# Altium schematic symbol library MinervaBots.SCHLIB: 115 symbols
Pins are listed as number, name and electrical type; pins without a type are passive.

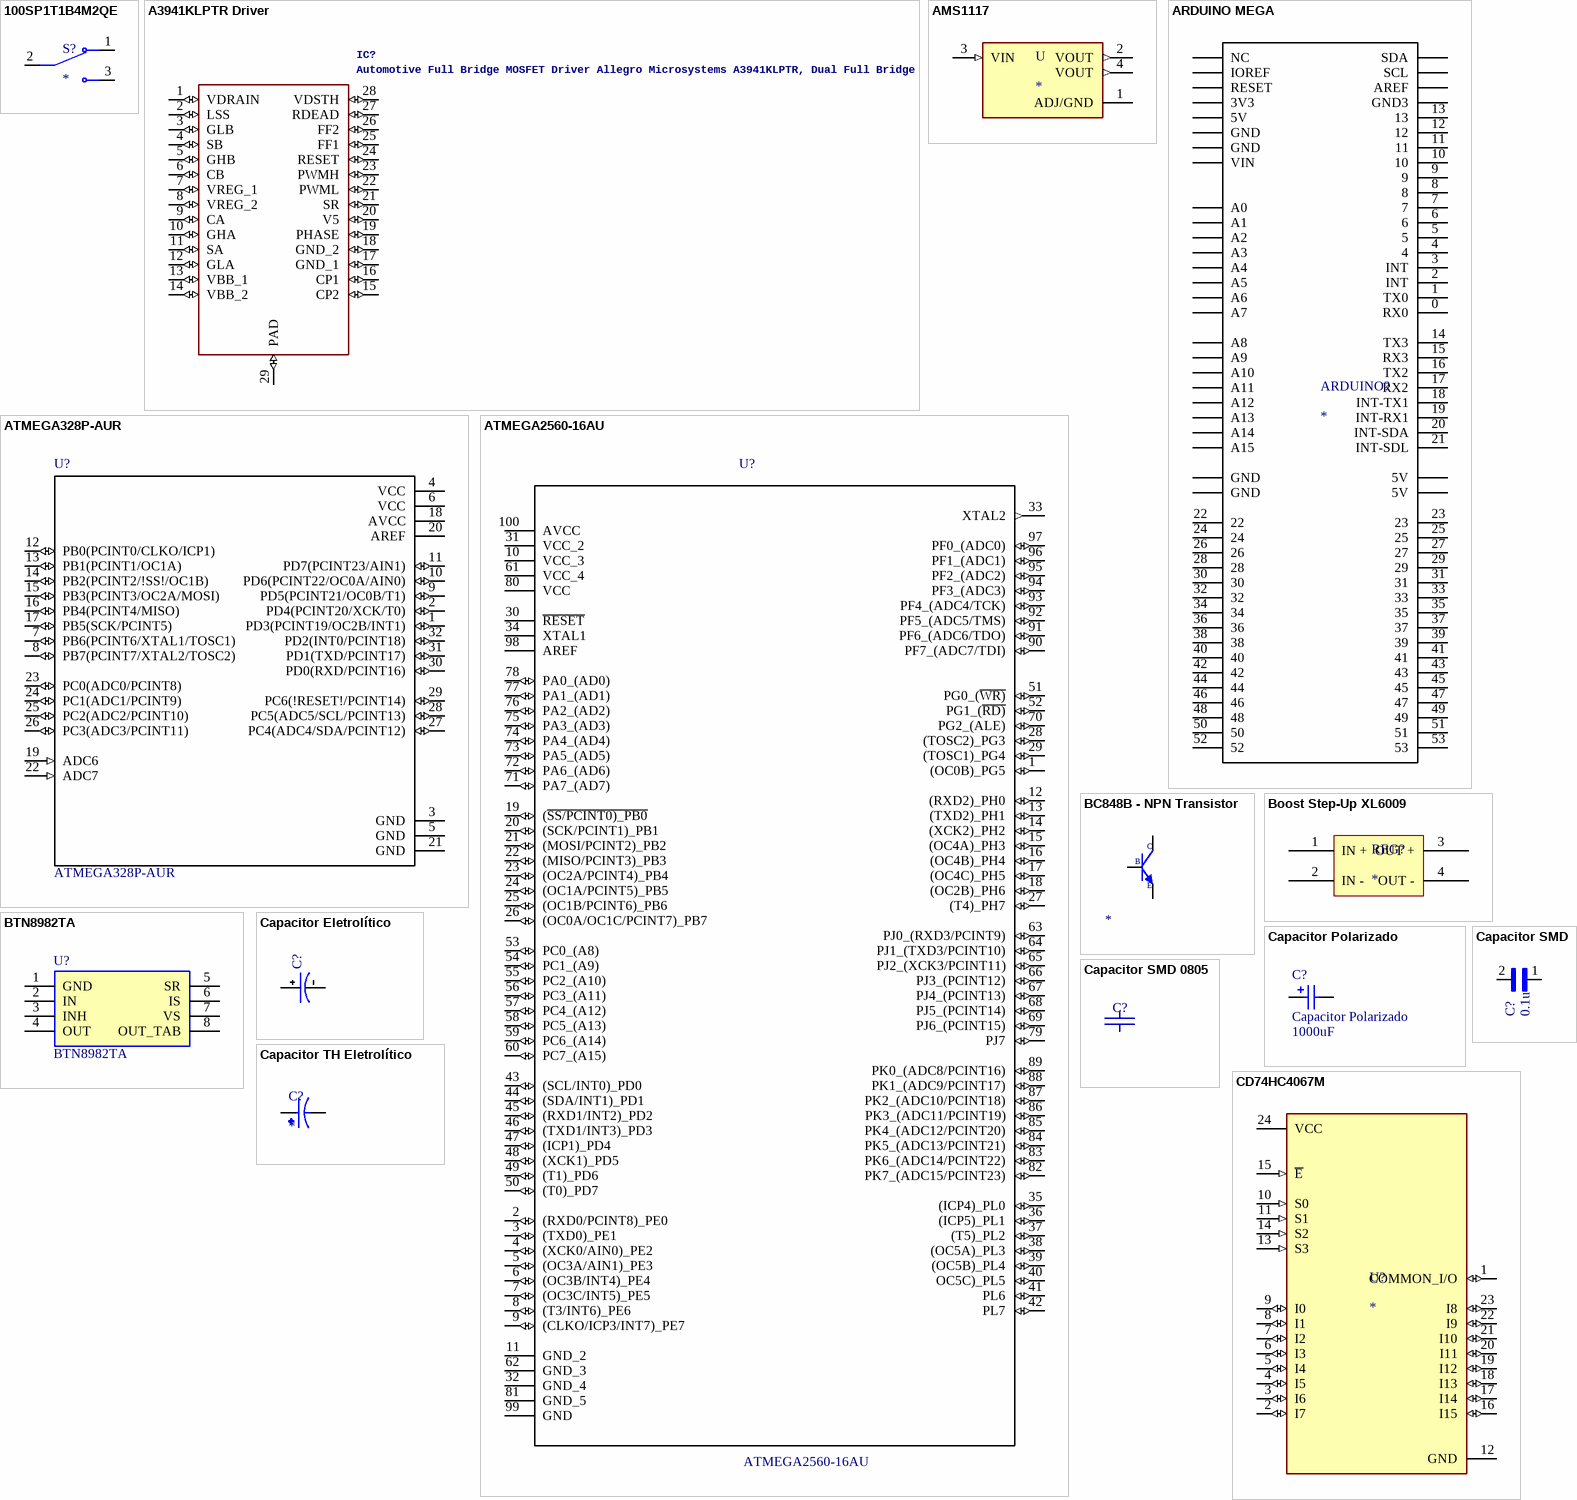
[diagram p0: symbols 100SP1T1B4M2QE to CD74HC4067M]

## 100SP1T1B4M2QE
designator S?
Toggle Switch SPDT Through Hole; MP: 100SP1T1B4M2QE; Value: *; Availability: Unavailable; Price: None; Package: None
footprint SW_100SP1T1B4M2QE_ciano (Footprint not found)
footprint SW_100SP1T1B4M2QE_vermelho (Footprint not found)
footprint SW_100SP1T1B4M2QE_azul (Footprint not found)
footprint SW_100SP1T1B4M2QE_verde (Footprint not found)
pins: 1, 2, 3

## A3941KLPTR Driver
designator IC?, comment Automotive Full Bridge MOSFET Driver Allegro Microsystems A3941KLPTR, Dual Full Bridge MOSFET Power Driver, 5.5  50 V, High Side/Low Side, 28-PinSource:  Datasheet
Driver de motor brushed; GateName_1: G$1; SymbolName_1: A3941KLPTR; LibraryName: A3941KLPTR; DeviceSetName: A3941KLPTR; Package: SOP65P640X120-29N; Manufacturer_Name: Allegro Microsystems; Manufacturer_Part_Number: A3941KLPTR; Height: 1.2mm
footprint SOP65P640X120-29N
pins: 1 VDRAIN (io), 2 LSS (io), 3 GLB (io), 4 SB (io), 5 GHB (io), 6 CB (io), 7 VREG_1 (io), 8 VREG_2 (io), 9 CA (io), 10 GHA (io), 11 SA (io), 12 GLA (io), 13 VBB_1 (io), 14 VBB_2 (io), 15 CP2 (io), 16 CP1 (io), 17 GND_1 (io), 18 GND_2 (io), 19 PHASE (io), 20 V5 (io), 21 SR (io), 22 PWML (io), 23 PWMH (io), 24 RESET (io), 25 FF1 (io), 26 FF2 (io), 27 RDEAD (io), 28 VDSTH (io), 29 PAD (io)

## AMS1117
designator U
UNO PLUS Arduino R3 Shield, Xbee Arduino IDE Wheeled Robotics Kit; MP: AMS1117; MF: Seeed Technology; Availability: Unavailable; SnapEDA_Link: https://www.snapeda.com/parts/AMS1117/Seeed%20Technology%20Co.%2C%20Ltd/view-part/184428/?ref=snap; Price: None; Value: *; Package: SOT-223 Seeed Technology
footprint SOT229P700X180-4N
pins: 1 ADJ/GND (power), 2 VOUT (out), 3 VIN (in), 4 VOUT (out)

## ARDUINO MEGA
designator ARDUINO?
footprint Arduino Mega
pins: 0 RX0 (power), 1 TX0 (power), 2 INT (power), 3 INT (power), 3V3 (power), 4 (power), 5 (power), 5V_1 5V (power), 5V_2 5V (power), 5V_3 5V (power), 6 (power), 7 (power), 8 (power), 9 (power), 10 (power), 11 (power), 12 (power), 13 (power), 14 TX3 (power), 15 RX3 (power), 16 TX2 (power), 17 RX2 (power), 18 INT-TX1 (power), 19 INT-RX1 (power), 20 INT-SDA (power), 21 INT-SDL (power), 22 (power), 23 (power), 24 (power), 25 (power), 26 (power), 27 (power), 28 (power), 29 (power), 30 (power), 31 (power), 32 (power), 33 (power), 34 (power), 35 (power), 36 (power), 37 (power), 38 (power), 39 (power), 40 (power), 41 (power), 42 (power), 43 (power), 44 (power), 45 (power), 46 (power), 47 (power), 48 (power), 49 (power), 50 (power), 51 (power), 52 (power), 53 (power), AD0 A0 (power), AD1 A1 (power), AD2 A2 (power), AD3 A3 (power), AD4 A4 (power), AD5 A5 (power), AD6 A6 (power), AD7 A7 (power), AD8 A8 (power), AD9 A9 (power), AD10 A10 (power), AD11 A11 (power), AD12 A12 (power), AD13 A13 (power), AD14 A14 (power), AD15 A15 (power), AREF (power), GND1 GND (power), GND2 GND (power), GND3 (power), GND4 GND (power), GND5 GND (power), IOREF (power), NC (power), RESET (power), SCL (power), SDA (power), VIN (power)

## ATMEGA328P-AUR
designator U?
ATmega328P Series 8 Bit 2 kB RAM 32 kB Flash SMT Microcontroller - TQFP-32; MF: Microchip; MP: ATMEGA328P-AUR; Package: TQFP-32 Microchip; Price: None; SnapEDA_Link: https://www.snapeda.com/parts/ATMEGA328P-AUR/Microchip/view-part/?ref=snap; Availability: Unavailable; Value: *
footprint ATMEGA328P-AUR
pins: 1 PD3(PCINT19/OC2B/INT1) (io), 2 PD4(PCINT20/XCK/T0) (io), 3 GND (power), 4 VCC (power), 5 GND (power), 6 VCC (power), 7 PB6(PCINT6/XTAL1/TOSC1) (io), 8 PB7(PCINT7/XTAL2/TOSC2) (io), 9 PD5(PCINT21/OC0B/T1) (io), 10 PD6(PCINT22/OC0A/AIN0) (io), 11 PD7(PCINT23/AIN1) (io), 12 PB0(PCINT0/CLKO/ICP1) (io), 13 PB1(PCINT1/OC1A) (io), 14 PB2(PCINT2/!SS!/OC1B) (io), 15 PB3(PCINT3/OC2A/MOSI) (io), 16 PB4(PCINT4/MISO) (io), 17 PB5(SCK/PCINT5) (io), 18 AVCC (power), 19 ADC6 (in), 20 AREF (power), 21 GND (power), 22 ADC7 (in), 23 PC0(ADC0/PCINT8) (io), 24 PC1(ADC1/PCINT9) (io), 25 PC2(ADC2/PCINT10) (io), 26 PC3(ADC3/PCINT11) (io), 27 PC4(ADC4/SDA/PCINT12) (io), 28 PC5(ADC5/SCL/PCINT13) (io), 29 PC6(!RESET!/PCINT14) (io), 30 PD0(RXD/PCINT16) (io), 31 PD1(TXD/PCINT17) (io), 32 PD2(INT0/PCINT18) (io)

## ATMEGA2560-16AU
designator U?
Embedded microcontroller ATMEGA2560-16AU TQFP 100 _14x14_ Microchip Technology 8-Bit 16 MHz I/O number 86; Price: None; SnapEDA_Link: https://www.snapeda.com/parts/ATMEGA2560-16AU/Microchip/view-part/?ref=snap; MF: Microchip; Availability: Unavailable; Package: TQFP-100 Microchip; MP: ATMEGA2560-16AU; Value: *
footprint ATMEGA2560-16AU
pins: 1 (OC0B)_PG5 (io), 2 (RXD0/PCINT8)_PE0 (io), 3 (TXD0)_PE1 (io), 4 (XCK0/AIN0)_PE2 (io), 5 (OC3A/AIN1)_PE3 (io), 6 (OC3B/INT4)_PE4 (io), 7 (OC3C/INT5)_PE5 (io), 8 (T3/INT6)_PE6 (io), 9 (CLKO/ICP3/INT7)_PE7 (io), 10 VCC_3 (power), 11 GND_2, 12 (RXD2)_PH0 (io), 13 (TXD2)_PH1 (io), 14 (XCK2)_PH2 (io), 15 (OC4A)_PH3 (io), 16 (OC4B)_PH4 (io), 17 (OC4C)_PH5 (io), 18 (OC2B)_PH6 (io), 19 (~{SS/PCINT0)_PB0} (io), 20 (SCK/PCINT1)_PB1 (io), 21 (MOSI/PCINT2)_PB2 (io), 22 (MISO/PCINT3)_PB3 (io), 23 (OC2A/PCINT4)_PB4 (io), 24 (OC1A/PCINT5)_PB5 (io), 25 (OC1B/PCINT6)_PB6 (io), 26 (OC0A/OC1C/PCINT7)_PB7 (io), 27 (T4)_PH7 (io), 28 (TOSC2)_PG3 (io), 29 (TOSC1)_PG4 (io), 30 ~{RESET}, 31 VCC_2 (power), 32 GND_4, 33 XTAL2 (out), 34 XTAL1, 35 (ICP4)_PL0 (io), 36 (ICP5)_PL1 (io), 37 (T5)_PL2 (io), 38 (OC5A)_PL3 (io), 39 (OC5B)_PL4 (io), 40 OC5C)_PL5 (io), 41 PL6 (io), 42 PL7 (io), 43 (SCL/INT0)_PD0 (io), 44 (SDA/INT1)_PD1 (io), 45 (RXD1/INT2)_PD2 (io), 46 (TXD1/INT3)_PD3 (io), 47 (ICP1)_PD4 (io), 48 (XCK1)_PD5 (io), 49 (T1)_PD6 (io), 50 (T0)_PD7 (io), 51 PG0_(~{WR)} (io), 52 PG1_(~{RD)} (io), 53 PC0_(A8) (io), 54 PC1_(A9) (io), 55 PC2_(A10) (io), 56 PC3_(A11) (io), 57 PC4_(A12) (io), 58 PC5_(A13) (io), 59 PC6_(A14) (io), 60 PC7_(A15) (io), 61 VCC_4 (power), 62 GND_3, 63 PJ0_(RXD3/PCINT9) (io), 64 PJ1_(TXD3/PCINT10) (io), 65 PJ2_(XCK3/PCINT11) (io), 66 PJ3_(PCINT12) (io), 67 PJ4_(PCINT13) (io), 68 PJ5_(PCINT14) (io), 69 PJ6_(PCINT15) (io), 70 PG2_(ALE) (io), 71 PA7_(AD7) (io), 72 PA6_(AD6) (io), 73 PA5_(AD5) (io), 74 PA4_(AD4) (io), 75 PA3_(AD3) (io), 76 PA2_(AD2) (io), 77 PA1_(AD1) (io), 78 PA0_(AD0) (io), 79 PJ7 (io), 80 VCC (power), 81 GND_5, 82 PK7_(ADC15/PCINT23) (io), 83 PK6_(ADC14/PCINT22) (io), 84 PK5_(ADC13/PCINT21) (io), 85 PK4_(ADC12/PCINT20) (io), 86 PK3_(ADC11/PCINT19) (io), 87 PK2_(ADC10/PCINT18) (io), 88 PK1_(ADC9/PCINT17) (io), 89 PK0_(ADC8/PCINT16) (io), 90 PF7_(ADC7/TDI) (io), 91 PF6_(ADC6/TDO) (io), 92 PF5_(ADC5/TMS) (io), 93 PF4_(ADC4/TCK) (io), 94 PF3_(ADC3) (io), 95 PF2_(ADC2) (io), 96 PF1_(ADC1) (io), 97 PF0_(ADC0) (io), 98 AREF, 99 GND, 100 AVCC (power)

## BC848B - NPN Transistor
designator Q?
NPN Transistor; Model: *
footprint SOT-23
pins: B, C, E

## Boost Step-Up XL6009
designator REG?
footprint STEP-UP XL6009 MODULE
pins: 1 IN + (power), 2 IN - (power), 3 OUT + (power), 4 OUT - (power)

## BTN8982TA
designator U?
New Infineon BTN8982TA Motor Driver,, 7-Pin TO-263-7-1; Geometry.Height: 4.4mm; Supplier_Name: RS; RS Part Number: 1248819; Manufacturer_Name: Infineon; Manufacturer_Part_Number: BTN8982TA; Allied_Number: *; Other Part Number: *; Datasheet Link: http://docs-europe.electrocomponents.com/webdocs/1478/0900766b81478095.pdf; 3D Package: *
footprint BTN8982
pins: 1 GND, 2 IN, 3 INH, 4 OUT, 5 SR, 6 IS, 7 VS, 8 OUT_TAB

## Capacitor Eletrolítico
designator C?
MP: ECA-1HM101; MF: Panasonic; Value: *; SnapEDA_Link: https://www.snapeda.com/parts/ECA-1HM101/Panasonic%20Electronic%20Components/view-part/?ref=snap; Package: Radial Panasonic; Price: 0.12 USD; Availability: Good
footprint Capacitor Eletrolítico 5x11 - Vertical
footprint Capacitor Eletrolítico 5x11 - Deitado para Cima
footprint Capacitor Eletrolítico 5x11 - Deitado para Baixo
footprint Capacitor Eletrolítico 6.3x11 - Deitado para Baixo
footprint Capacitor Eletrolítico 6.3x11 - Deitado para Cima
footprint Capacitor Eletrolítico 6.3x11 - Vertical
footprint Capacitor Eletrolítico 8x12 - Deitado para Baixo
footprint Capacitor Eletrolítico 8x12 - Deitado para Cima
footprint Capacitor Eletrolítico 8x12 - Vertical
pins: N, P

## Capacitor Polarizado
designator C?  value 1000uF
Polarized Capacitor (Radial); Published: 8-Jun-2000; LatestRevisionDate: 17-Jul-2002; LatestRevisionNote: Re-released for DXP Platform.; PackageReference: RB7.6-15; Publisher: Altium Limited; PackageDescription: Polarized Capacitor (Radial); 2 Leads
footprint Capacitor Polarizado (Footprint not found)
simulation model CAP (Capacitor)
signal-integrity model Cap Pol
pins: 1, 2
1 alternate drawing of the same symbol

## Capacitor SMD
designator C?, comment 0.1u
0805 390 pF 50 V Â±5% Tolerance C0G SMT Multilayer Ceramic Capacitor; MF: Murata Electronics; MP: GRM2165C1H391JA01D; Price: 0.07 USD; SnapEDA_Link: https://www.snapeda.com/parts/GRM2165C1H391JA01D/Murata%2520Electronics%2520North%2520America/view-part/?ref=snap; Availability: Good; Package: 0805 Murata; Value: *
footprint Capacitor SMD
pins: 1, 2

## Capacitor SMD 0805
designator C?  (value not drawn)
Capacitor
footprint SMD Capacitor
footprint CAPC0603
footprint CAPC2220
footprint CAPC0805
footprint CAPC0402
footprint CAPC1206
pins: 1, 2

## Capacitor TH Eletrolítico
designator C?
CAP ALUM 2000UF 20% 25V RADIAL; MP: EEUTP1E202SB; MF: Panasonic; Availability: In Stock; Package: RADIAL-2 Panasonic; Value: *; Check_prices: https://www.snapeda.com/parts/EEUTP1E202SB/Panasonic/view-part/5792110/?ref=eda; SnapEDA_Link: https://www.snapeda.com/parts/EEUTP1E202SB/Panasonic/view-part/5792110/?ref=snap; Price: None
footprint CAPPRD750W80D1600H2000
pins: N, P

## CD74HC4067M
designator U?
5-V, 16:1, 1-channel analog multiplexer; MP: CD74HC4067M; Value: *; Availability: Unavailable; Package: None; Price: None
footprint CD74HC4067
pins: 1 COMMON_I/O (io), 2 I7 (io), 3 I6 (io), 4 I5 (io), 5 I4 (io), 6 I3 (io), 7 I2 (io), 8 I1 (io), 9 I0 (io), 10 S0 (in), 11 S1 (in), 12 GND (power), 13 S3 (in), 14 S2 (in), 15 ~{E} (in), 16 I15 (io), 17 I14 (io), 18 I13 (io), 19 I12 (io), 20 I11 (io), 21 I10 (io), 22 I9 (io), 23 I8 (io), 24 VCC (power)

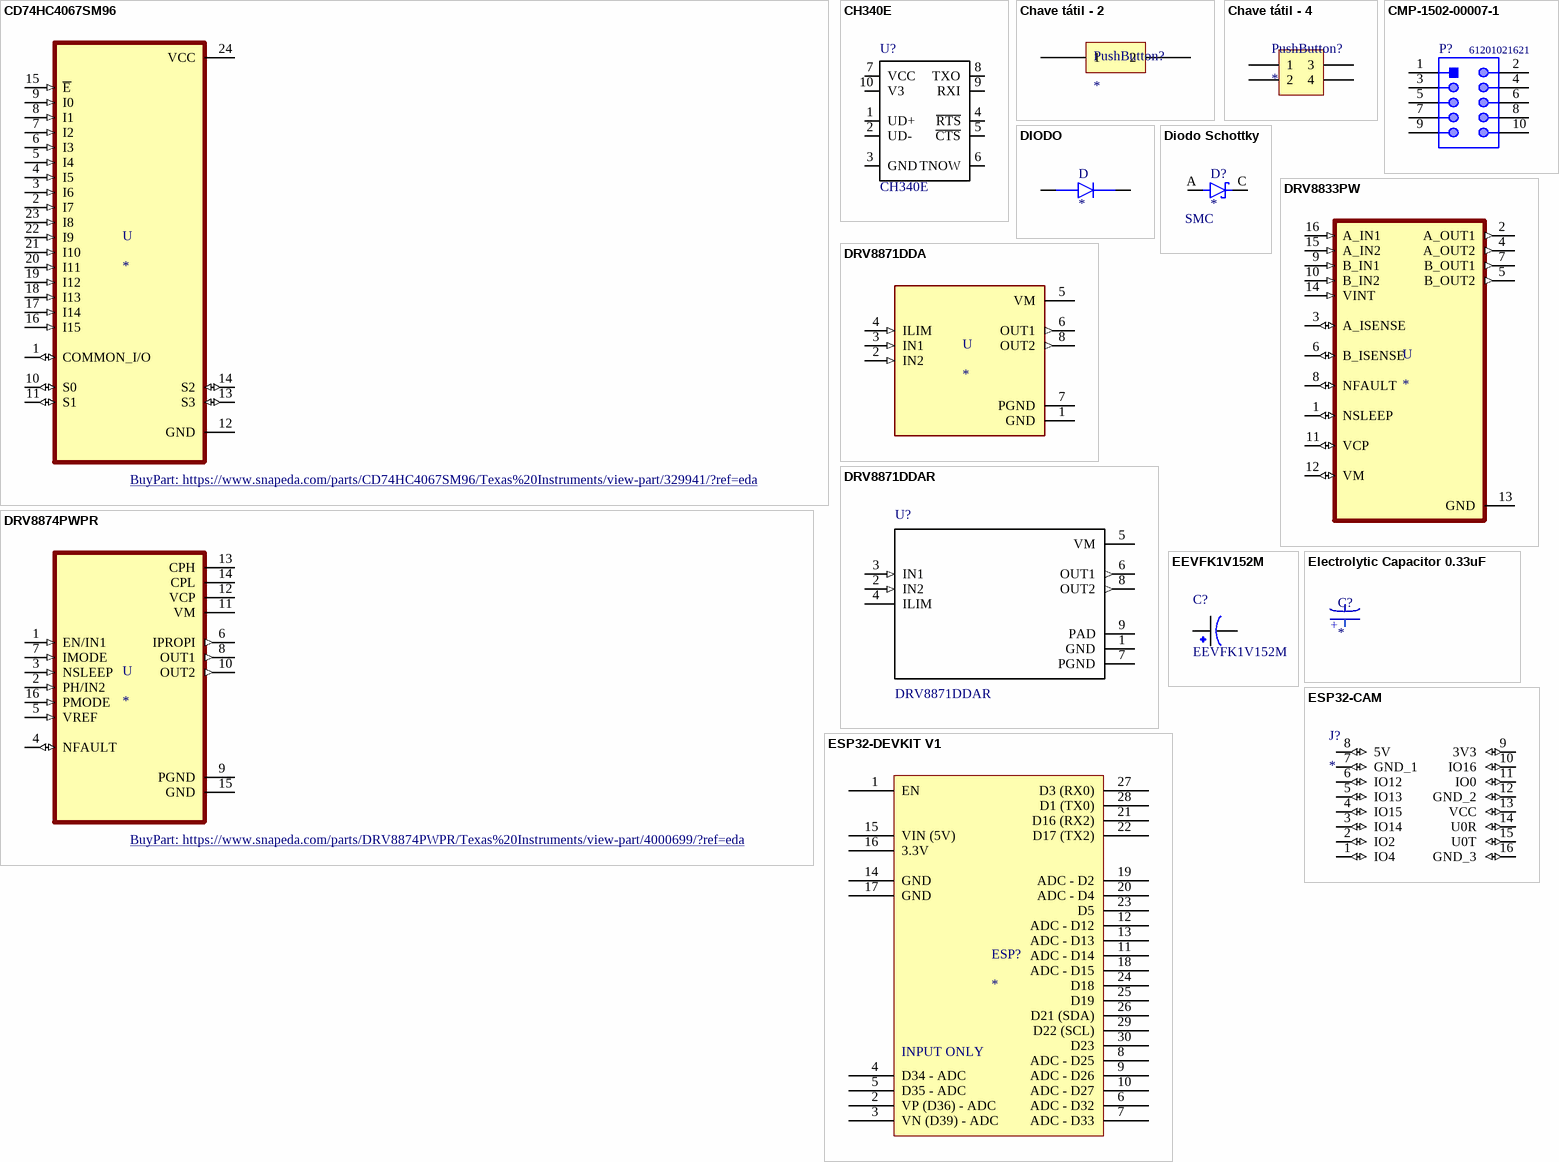
[diagram p1: symbols CD74HC4067SM96 to ESP32-DEVKIT V1]

## CD74HC4067SM96
designator U
5-V, 16:1, 1-channel analog multiplexer 24-SSOP -55 to 125; MP: CD74HC4067SM96; MF: Texas Instruments; SnapEDA_Link: https://www.snapeda.com/parts/CD74HC4067SM96/Texas%20Instruments/view-part/329941/?ref=snap; Value: *; Texas_Instruments-Purchase-URL: https://snapeda.com/shop?store=Texas+Instruments&id=329941; Package: SSOP-24 Texas Instruments; Digi-Key_Part_Number: 296-9226-1-ND; BuyPart: https://www.snapeda.com/parts/CD74HC4067SM96/Texas%20Instruments/view-part/329941/?ref=eda
footprint SOP65P780X200-24N
pins: 1 COMMON_I/O (io), 2 I7 (in), 3 I6 (in), 4 I5 (in), 5 I4 (in), 6 I3 (in), 7 I2 (in), 8 I1 (in), 9 I0 (in), 10 S0 (io), 11 S1 (io), 12 GND (power), 13 S3 (io), 14 S2 (io), 15 ~{E} (in), 16 I15 (in), 17 I14 (in), 18 I13 (in), 19 I12 (in), 20 I11 (in), 21 I10 (in), 22 I9 (in), 23 I8 (in), 24 VCC (power)

## CH340E
designator U?
USB to serial chip CH340; MF: WCH; Availability: Unavailable; Package: Package Analog Devices; Price: None; MP: CH340E; SnapEDA_Link: https://www.snapeda.com/parts/CH340E/WCH/view-part/?ref=snap; Value: *
footprint *MSOP10
pins: 1 UD+ (io), 2 UD- (io), 3 GND (io), 4 ~{RTS} (io), 5 ~{CTS} (io), 6 TNOW (io), 7 VCC (io), 8 TXO (io), 9 RXI (io), 10 V3 (io)

## Chave tátil - 2
designator PushButton?
Chave tátil/pushbutton/momentary switch
footprint Chave tátil - 2 (2 pins)
pins: 1, 2

## Chave tátil - 4
designator PushButton?
Chave tátil/pushbutton/momentary switch
footprint Chave tátil - 4 (4 pins)
pins: 1, 2, 3, 4

## CMP-1502-00007-1
designator P?, comment 61201021621
Male Box Header WR-BHD, THT, Vertical, pitch 2.54 mm, 10 pins; Manufacturer: Wurth Elektronik; Contact Resistance: 20mOhm; Withstanding Voltage: 500VAC; Pin Number: 10; Working Voltage: 250VAC; Pitch: 2.54mm; Mounting Technology: THT; Operating Temperature: -40to125degC; Published Date: August2018; Gender: Male; Packaging: Tray; Manufacturer URL: http://www.we-online.de; Datasheet URL: https://katalog.we-online.de/em/datasheet/6120xx21621.pdf; Orientation: Vertical; Package Reference: 61201021621; Part Number: 61201021621; Publisher: WurthElektronik
footprint 61201021621 (10 pins, straight, gold plating)
pins: 1, 2, 3, 4, 5, 6, 7, 8, 9, 10

## DIODO
designator D
Diode Standard 50V 1A Surface Mount SMA _DO-214AC_; MF: NKK Switches; MP: S1A; SnapEDA_Link: https://www.snapeda.com/parts/S1A/NKK%20Switches/view-part/2881437/?ref=snap; Availability: Unavailable; Value: *; Price: None; Package: DO-214AC-214 Alliance Sensors Group
footprint DO-214AC
pins: 1 C, 2 A

## Diodo Schottky
designator D?  Package: SMC
Diodo Schottky com encapsulamentos SMA, SMB e SMC
footprint SMC (DO-214AB) (Footprint not found)
footprint SMB (DO-214AA) (Footprint not found)
footprint SMA (DO-214AC) (Footprint not found)
pins: A, C K

## DRV8833PW
designator U
10.8-V, 2-A dual H-bridge motor driver with current regulation 16-TSSOP -40 to 85; MF: Texas Instruments; MP: DRV8833PW; Value: *; Package: TSSOP-16 Texas Instruments; Price: None; Availability: Unavailable; Mouser-Purchase-URL: https://snapeda.com/shop?store=Mouser&id=507725; SnapEDA_Link: https://www.snapeda.com/parts/DRV8833PW/Texas%20Instruments/view-part/507725/?ref=snap
footprint SOP65P640X120-16N (Footprint not found)
pins: 1 NSLEEP (io), 2 A_OUT1 (out), 3 A_ISENSE (io), 4 A_OUT2 (out), 5 B_OUT2 (out), 6 B_ISENSE (io), 7 B_OUT1 (out), 8 NFAULT (io), 9 B_IN1 (in), 10 B_IN2 (in), 11 VCP (io), 12 VM (io), 13 GND (power), 14 VINT (in), 15 A_IN2 (in), 16 A_IN1 (in)

## DRV8871DDA
designator U
45-V, 3.6-A H-bridge motor driver with integrated current sensing 8-SO PowerPAD -40 to 125; MP: DRV8871DDA; MF: Texas Instruments; Mouser-Purchase-URL: https://snapeda.com/shop?store=Mouser&id=547750; SnapEDA_Link: https://www.snapeda.com/parts/DRV8871DDA/Texas%20Instruments/view-part/547750/?ref=snap; DigiKey-Purchase-URL: https://snapeda.com/shop?store=DigiKey&id=547750; Arrow_Electronics-Purchase-URL: https://snapeda.com/shop?store=Arrow+Electronics&id=547750; Texas_Instruments-Purchase-URL: https://snapeda.com/shop?store=Texas+Instruments&id=547750; Availability: Good; Price: None; Value: *; Package: HSOIC-8 Texas Instruments
footprint DRV8871DDAR
pins: 1 GND (power), 2 IN2 (in), 3 IN1 (in), 4 ILIM (in), 5 VM (power), 6 OUT1 (out), 7 PGND (power), 8 OUT2 (out)

## DRV8871DDAR
designator U?
3.6A Brushed DC Motor Driver with Integrated Current Sensing _PWM Ctrl_ 8-SO PowerPAD -40 to 125; MF: Texas Instruments; Digi-Key_Purchase_URL: https://www.digikey.com.br/product-detail/en/texas-instruments/DRV8871DDAR/296-43024-1-ND/5722182?utm_source=snapeda&utm_medium=aggregator&utm_campaign=symbol; Package: SO-8 Texas Instruments; MP: DRV8871DDAR; SnapEDA_Link: https://www.snapeda.com/parts/DRV8871DDAR/Texas%20Instruments/view-part/?ref=snap; Digi-Key_Part_Number: 296-43024-1-ND; Value: *
footprint DRV8871DDAR
pins: 1 GND (power), 2 IN2 (in), 3 IN1 (in), 4 ILIM (power), 5 VM (power), 6 OUT1 (out), 7 PGND (power), 8 OUT2 (out), 9 PAD (power)

## DRV8874PWPR
designator U
38-V, 6-A H-bridge motor driver with integrated current sensing & feedback 16-HTSSOP -40 to 125; MF: Texas Instruments; MP: DRV8874PWPR; Mouser-Purchase-URL: https://snapeda.com/shop?store=Mouser&id=4000699; SnapEDA_Link: https://www.snapeda.com/parts/DRV8874PWPR/Texas%20Instruments/view-part/4000699/?ref=snap; Price: None; Availability: Warning; Package: HTSSOP-16 Texas Instruments; Value: *; Texas_Instruments-Purchase-URL: https://snapeda.com/shop?store=Texas+Instruments&id=4000699; BuyPart: https://www.snapeda.com/parts/DRV8874PWPR/Texas%20Instruments/view-part/4000699/?ref=eda
footprint SOP65P640X120-17N (Footprint not found)
pins: 1 EN/IN1 (in), 2 PH/IN2 (in), 3 NSLEEP (in), 4 NFAULT (io), 5 VREF (in), 6 IPROPI (out), 7 IMODE (in), 8 OUT1 (out), 9 PGND (power), 10 OUT2 (out), 11 VM (power), 12 VCP (power), 13 CPH (power), 14 CPL (power), 15 GND (power), 16 PMODE (in)

## EEVFK1V152M
designator C?
Cap Aluminum Lytic 1500uF 35V 20% _16 X 16.5mm_ SMD 0.035 Ohm 1800mA 2000h 105C T/R; MF: Panasonic Electronic; MP: EEVFK1V152M; Price: None; Package: TO-220 Panasonic; Availability: Unavailable; SnapEDA_Link: https://www.snapeda.com/parts/EEVFK1V152M/Panasonic%20Electronic%20Components/view-part/?ref=snap; Value: *
footprint *CAP_EEVFK1V152M
pins: 1, 2

## Electrolytic Capacitor 0.33uF
designator C?
capacitor
footprint Eletrolytic Capacitor 5x5mm
pins: 1, 2
text: +

## ESP32-CAM
designator J?
ESP32 ESP32 Transceiver; 802.11 a/b/g/n (Wi-Fi, WiFi, WLAN), BluetoothÂ® Smart 4.x Low Energy (BLE) Evaluation Board; MP: ESP32-CAM; MF: AI-Thinker; Package: None; Price: None; Value: *; SnapEDA_Link: https://www.snapeda.com/parts/ESP32-CAM/AI-Thinker/view-part/?ref=snap; Check_prices: https://www.snapeda.com/parts/ESP32-CAM/AI-Thinker/view-part/?ref=eda; Availability: Not in stock
footprint ESP32-CAM
pins: 1 IO4 (io), 2 IO2 (io), 3 IO14 (io), 4 IO15 (io), 5 IO13 (io), 6 IO12 (io), 7 GND_1 (io), 8 5V (io), 9 3V3 (io), 10 IO16 (io), 11 IO0 (io), 12 GND_2 (io), 13 VCC (io), 14 U0R (io), 15 U0T (io), 16 GND_3 (io)

## ESP32-DEVKIT V1
designator ESP?
Placa ESP32 com 30 pinos - Modelo DEVKIT V1
footprint ESP32-DEVKIT V1 (Módulo ESP32 com 30 pinos e componente 3D)
footprint ESP32-DEVKIT V1 with HeaderConnector (Módulo ESP32 com 30 pinos e componente 3D com suporte de headers)
pins: 1 EN, 2 VP (D36) - ADC, 3 VN (D39) - ADC, 4 D34 - ADC, 5 D35 - ADC, 6 ADC - D32, 7 ADC - D33, 8 ADC - D25, 9 ADC - D26, 10 ADC - D27, 11 ADC - D14, 12 ADC - D12, 13 ADC - D13, 14 GND, 15 VIN (5V) (power), 16 3.3V (power), 17 GND, 18 ADC - D15, 19 ADC - D2, 20 ADC - D4, 21 D16 (RX2), 22 D17 (TX2), 23 D5, 24 D18, 25 D19, 26 D21 (SDA), 27 D3 (RX0), 28 D1 (TX0), 29 D22 (SCL), 30 D23
text: INPUT ONLY

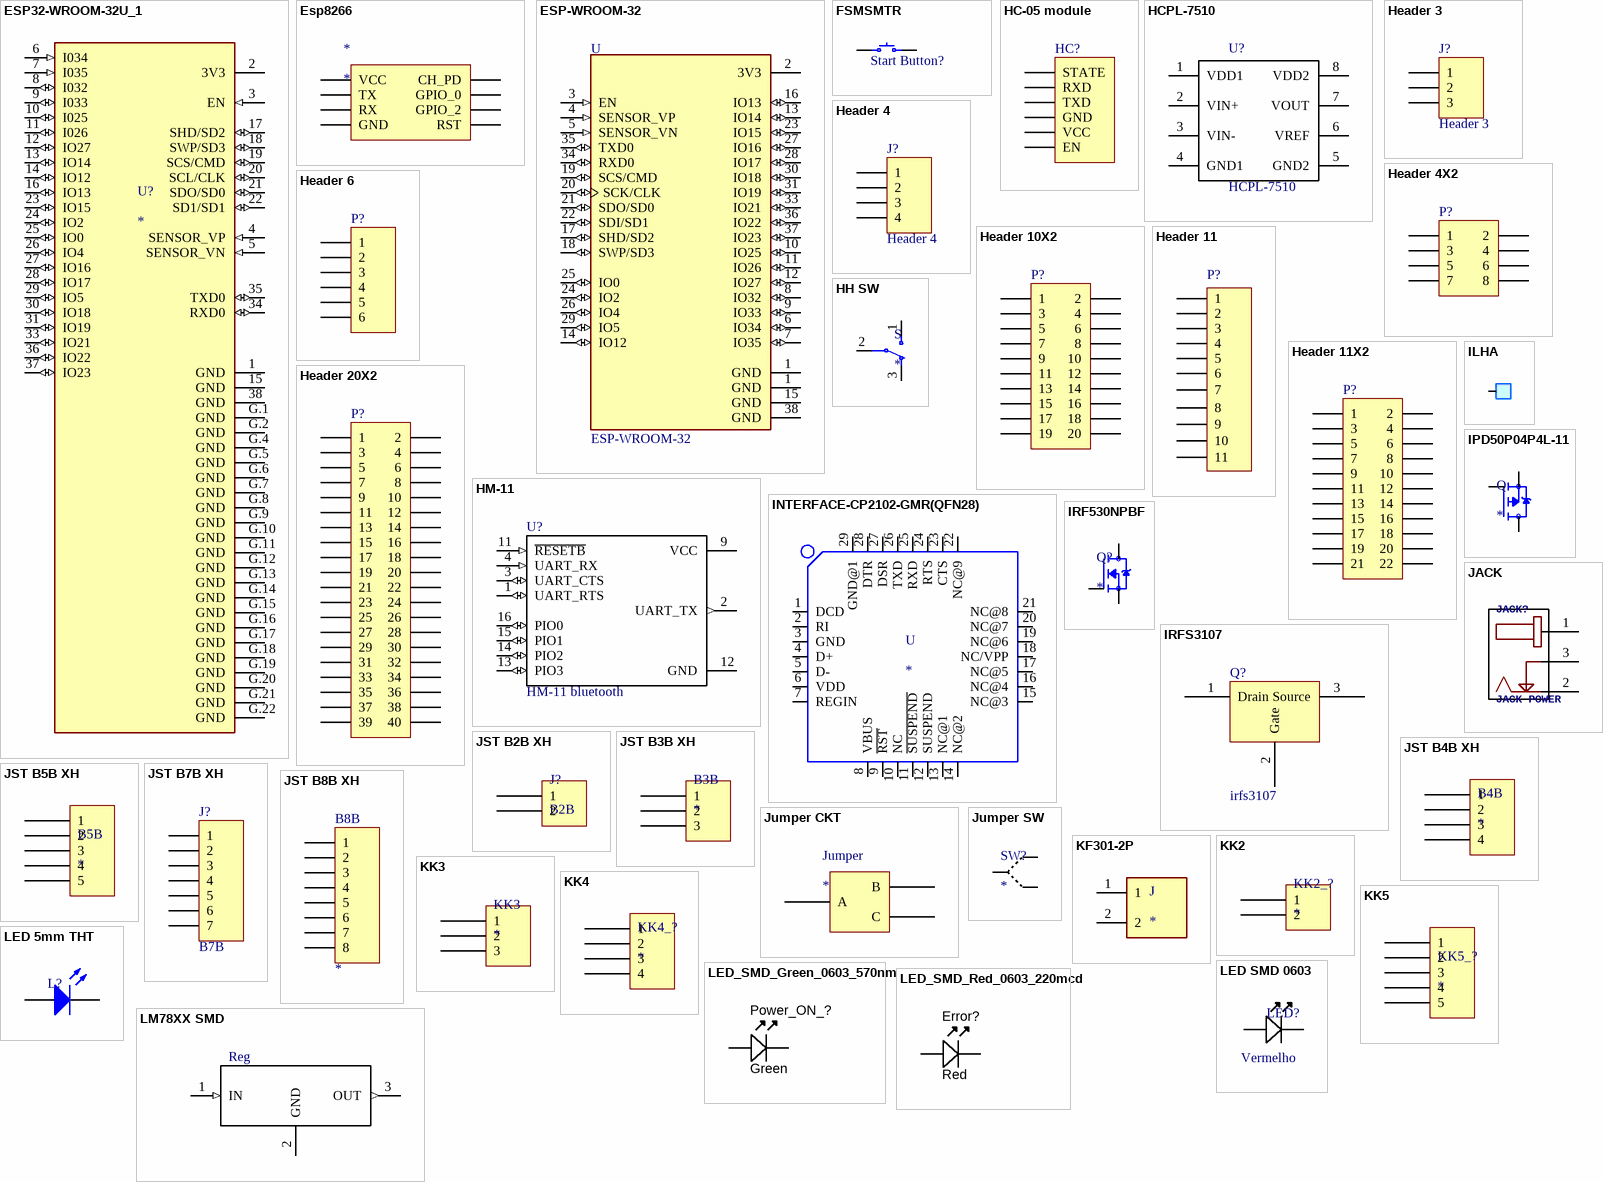
[diagram p2: symbols ESP32-WROOM-32U_1 to LM78XX SMD]

## ESP32-WROOM-32U_1
designator U?
Wi-Fi/BT BLE Module ESP32-D0WD SPI Flash UART U.FL Conn.; MP: ESP32-WROOM-32U; Availability: Unavailable; Value: *; Package: None; Price: None
footprint ESP32-WROOM-32U
pins: 1 GND (power), 2 3V3 (power), 3 EN (in), 4 SENSOR_VP (in), 5 SENSOR_VN (in), 6 I034 (in), 7 I035 (in), 8 I032 (io), 9 I033 (io), 10 I025 (io), 11 I026 (io), 12 IO27 (io), 13 IO14 (io), 14 IO12 (io), 15 GND (power), 16 IO13 (io), 17 SHD/SD2 (io), 18 SWP/SD3 (io), 19 SCS/CMD (io), 20 SCL/CLK (io), 21 SDO/SD0 (io), 22 SD1/SD1 (io), 23 IO15 (io), 24 IO2 (io), 25 IO0 (io), 26 IO4 (io), 27 IO16 (io), 28 IO17 (io), 29 IO5 (io), 30 IO18 (io), 31 IO19 (io), 33 IO21 (io), 34 RXD0 (io), 35 TXD0 (io), 36 IO22 (io), 37 IO23 (io), 38 GND (power), G.1 GND (power), G.2 GND (power), G.4 GND (power), G.5 GND (power), G.6 GND (power), G.7 GND (power), G.8 GND (power), G.9 GND (power), G.10 GND (power), G.11 GND (power), G.12 GND (power), G.13 GND (power), G.14 GND (power), G.15 GND (power), G.16 GND (power), G.17 GND (power), G.18 GND (power), G.19 GND (power), G.20 GND (power), G.21 GND (power), G.22 GND (power)

## Esp8266
designator *
Módulo de TX/RX
footprint ESP8266 (Esp8266 module)
pins: 1 TX, 2 GND, 3 CH_PD, 4 GPIO_2, 5 RST, 6 GPIO_0, 7 VCC, 8 RX

## ESP-WROOM-32
designator U
WiFi 802.11b/g/n/d/e/i Transceiver Module 2.4GHz Surface Mount; MF: Olimex LTD; Value: *; SnapEDA_Link: https://www.snapeda.com/parts/ESP-WROOM-32/Olimex%20LTD/view-part/2311927/?ref=snap; MP: ESP-WROOM-32; Availability: Unavailable; Price: None; Package: Module Olimex LTD
footprint MODULE_ESP32-WROOM-32
pins: 1 GND (power), 1 GND (power), 2 3V3 (power), 3 EN (in), 4 SENSOR_VP (in), 5 SENSOR_VN (in), 6 IO34 (io), 7 IO35 (io), 8 IO32 (io), 9 IO33 (io), 10 IO25 (io), 11 IO26 (io), 12 IO27 (io), 13 IO14 (io), 14 IO12 (io), 15 GND (power), 16 IO13 (io), 17 SHD/SD2 (io), 18 SWP/SD3 (io), 19 SCS/CMD (io), 20 SCK/CLK (io), 21 SDO/SD0 (io), 22 SDI/SD1 (io), 23 IO15 (io), 24 IO2 (io), 25 IO0 (io), 26 IO4 (io), 27 IO16 (io), 28 IO17 (io), 29 IO5 (io), 30 IO18 (io), 31 IO19 (io), 33 IO21 (io), 34 RXD0 (io), 35 TXD0 (io), 36 IO22 (io), 37 IO23 (io), 38 GND (power)

## FSMSMTR
designator Start Button?  (value not drawn)
SWITCH TACTILE SPST-NO 0.05A 24V; Manufacturer: TE Connectivity Alcoswitch Switches; Switch Function: Off-Mom; Contact Rating @ Voltage: 0.05A @ 24VDC; Actuator Type: Standard; Actuator Orientation: Top Actuated; Illumination: Non-Illuminated; Operating Force: 180gf; Switch Travel: 0.25mm; Mechanical Life: 20,000 Cycles; Part Number: FSMSMTR; PartId: 8251; Supplier 1: Digi-Key; Supplier Part Number 1: 450-1758-2-ND; ComponentLink1Description: Datasheet; ComponentLink1URL: http://www.te.com/commerce/DocumentDelivery/DDEController?Action=srchrtrv&DocNm=1437566-3&DocType=Customer+Drawing&DocLang=English; ComponentLink2Description: Digi-Key Listing; ComponentLink2URL: http://www.digikey.com/product-detail/en/FSMSMTR/450-1758-2-ND/529671; Price: 0.175; Circuit: SPST-NO; Illumination Voltage: -; Illumination Type, Colour: -; Operating Temperature: -35C ~ 85C
footprint TE FSMSMTR
pins: 1, 2

## HC-05 module
designator HC?
Módulo bluetooth; LatestRevisionDate: 17-Jul-2002; LatestRevisionNote: Re-released for DXP Platform.; Publisher: Altium Limited
signal-integrity model Connector
footprint HC-05 module (Connector; Header; 6 Position)
pins: 1 STATE, 2 RXD, 3 TXD, 4 GND, 5 VCC, 6 EN

## HCPL-7510
designator U?
Amplificador operacional isolado; MF: Vishay Semiconductor; MP: ILD615-1X007T; Package: SMD-8 Vishay Semiconductor; Price: None; Availability: Unavailable; SnapEDA_Link: https://www.snapeda.com/parts/ILD615-1X007T/Vishay%20Semiconductor%20Opto%20Division/view-part/?ref=snap; Value: *
footprint HCPL-7510
pins: 1 VDD1, 2 VIN+, 3 VIN-, 4 GND1, 5 GND2, 6 VREF, 7 VOUT, 8 VDD2

## Header 3
designator J?
Header, 3-Pin; LatestRevisionDate: 17-Jul-2002; LatestRevisionNote: Re-released for DXP Platform.; Publisher: Altium Limited
signal-integrity model Connector
footprint HDR1X3 TH right angle (Connector; Header; 3 Position)
footprint HDR1X3 smd (Connector; Header; 3 Position)
footprint HDR1X3 THT (Connector; Header; 3 Position)
footprint HDR1X3 TH FEMALE
pins: 1, 2, 3

## Header 4
designator J?
Header, 4-Pin; LatestRevisionDate: 17-Jul-2002; LatestRevisionNote: Re-released for DXP Platform.; Publisher: Altium Limited
signal-integrity model Connector
footprint Header1x4 - Female (Connector; Header; 4 Position; Female)
footprint Header1x4 - Male (Connector; Header; 4 Position; Male)
pins: 1, 2, 3, 4

## Header 4X2
designator P?
Header, 4-Pin, Dual row; LatestRevisionDate: 17-Jul-2002; LatestRevisionNote: Re-released for DXP Platform.; Publisher: Altium Limited
footprint HDR2X4 (Connector; Header; 4x2 Position)
signal-integrity model Connector
pins: 1, 2, 3, 4, 5, 6, 7, 8

## Header 6
designator P?
Header, 6-Pin; LatestRevisionDate: 17-Jul-2002; LatestRevisionNote: Re-released for DXP Platform.; Publisher: Altium Limited
footprint HDR1X6 (Connector; Header; 6 Position)
signal-integrity model Connector
footprint Header1x6 (Connector; Header; 6 Position)
pins: 1, 2, 3, 4, 5, 6

## Header 10X2
designator P?
Header, 10-Pin, Dual row; LatestRevisionDate: 17-Jul-2002; LatestRevisionNote: Re-released for DXP Platform.; Publisher: Altium Limited
footprint HDR2X10 (Connector; Header; 10x2 Position)
signal-integrity model Connector
pins: 1, 2, 3, 4, 5, 6, 7, 8, 9, 10, 11, 12, 13, 14, 15, 16, 17, 18, 19, 20

## Header 11
designator P?
Header, 11-Pin; LatestRevisionDate: 17-Jul-2002; LatestRevisionNote: Re-released for DXP Platform.; Publisher: Altium Limited
signal-integrity model Connector
footprint Header1x9 (Connector; Header; 9 Position)
pins: 1, 2, 3, 4, 5, 6, 7, 8, 9, 10, 11

## Header 11X2
designator P?
Header, 11-Pin, Dual row; LatestRevisionDate: 17-Jul-2002; LatestRevisionNote: Re-released for DXP Platform.; Publisher: Altium Limited
footprint HDR2X11 (Connector; Header; 11x2 Position)
signal-integrity model Connector
pins: 1, 2, 3, 4, 5, 6, 7, 8, 9, 10, 11, 12, 13, 14, 15, 16, 17, 18, 19, 20, 21, 22

## Header 20X2
designator P?
Header, 20-Pin, Dual row; LatestRevisionDate: 17-Jul-2002; LatestRevisionNote: Re-released for DXP Platform.; Publisher: Altium Limited
footprint HDR2X20 (Connector; Header; 20x2 Position)
signal-integrity model Connector
pins: 1, 2, 3, 4, 5, 6, 7, 8, 9, 10, 11, 12, 13, 14, 15, 16, 17, 18, 19, 20, 21, 22, 23, 24, 25, 26, 27, 28, 29, 30, 31, 32, 33, 34, 35, 36, 37, 38, 39, 40

## HH SW
designator S
Slide Switch SPDT Through Hole; MP: SSA12G; MF: TE Connectivity; Price: None; Value: *; Package: None; TE_purchase_URL: https://www.te.com/usa-en/product-1-1437575-5.html?te_bu=Cor&te_type=disp&te_campaign=seda_glo_cor-seda-global-disp-prtnr-fy19-seda-model-bom-cta_sma-317_1&elqCampaignId=32493; SnapEDA_Link: https://www.snapeda.com/parts/SSA12G/TE%20Connectivity%20ALCOSWITCH%20Switches/view-part/2876577/?ref=snap; Availability: Unavailable
footprint HH SW
pins: 1, 2, 3

## HM-11
designator U?, comment HM-11 bluetooth
Bluetooth V4.0 Hm-11 Ble Module; MP: 317030001; MF: Seeed Technology; Availability: Unavailable; Package: Module Seeed Studio; SnapEDA_Link: https://www.snapeda.com/parts/317030001/Seeed%20Technology%20Co.%2C%20Ltd/view-part/?ref=snap; Price: None; Value: *
footprint *XCVR_317030001
pins: 1 UART_RTS (io), 2 UART_TX (out), 3 UART_CTS (io), 4 UART_RX (in), 9 VCC (power), 11 ~{RESETB} (in), 12 GND (power), 13 PIO3 (io), 14 PIO2 (io), 15 PIO1 (io), 16 PIO0 (io)

## ILHA
designator 5v_bms?, comment 5v_bms  (value not drawn)
Ilha
footprint ILHA (Ilha)
pins: 1

## INTERFACE-CP2102-GMR(QFN28)
designator U
USB Bridge, USB to UART USB 2.0 UART Interface 28-QFN _5x5_; MP: CP2102-GMR; MF: Silicon; SnapEDA_Link: https://www.snapeda.com/parts/CP2102-GMR/Silicon%20Labs/view-part/570818/?ref=snap; Price: None; Availability: Unavailable; Value: *; Package: VFQFN-28 Vishay Siliconix
footprint QFN28G_0.5-5X5MM
pins: 1 DCD (io), 2 RI (io), 3 GND (io), 4 D+ (io), 5 D- (io), 6 VDD (io), 7 REGIN (io), 8 VBUS (io), 9 ~{RST} (io), 10 NC (io), 11 ~{SUSPEND} (io), 12 SUSPEND (io), 13 NC@1 (io), 14 NC@2 (io), 15 NC@3 (io), 16 NC@4 (io), 17 NC@5 (io), 18 NC/VPP (io), 19 NC@6 (io), 20 NC@7 (io), 21 NC@8 (io), 22 NC@9 (io), 23 CTS (io), 24 RTS (io), 25 RXD (io), 26 TXD (io), 27 DSR (io), 28 DTR (io), 29 GND@1 (io)

## IPD50P04P4L-11
designator Q
P-Channel 40V 50A _Tc_ 58W _Tc_ Surface Mount PG-TO252-3-313; MF: Infineon Technologies; MP: IPD50P04P4L-11; Availability: Unavailable; SnapEDA_Link: https://www.snapeda.com/parts/IPD50P04P4L-11/Infineon%20Technologies/view-part/448110/?ref=snap; Value: *; Price: None; Package: TO-252-3 Infineon
footprint DPAK228P998X235-3N
pins: 1 G, 2 D, 3 S

## IRF530NPBF
designator Q?
RoHS Compliant | Low RDS(on) | Industry-leading quality | Dynamic dv/dt Rating | Fast Switching | Fully Avalanche Rated | 175C Operating Temperature; MF: Infineon Technologies; MP: IRF530NPBF; Purchase-URL: https://pricing.snapeda.com/search/part/IRF530NPBF/?ref=eda; Check_prices: https://www.snapeda.com/parts/IRF530NPBF/Infineon+Technologies/view-part/?ref=eda; SnapEDA_Link: https://www.snapeda.com/parts/IRF530NPBF/Infineon+Technologies/view-part/?ref=snap; Price: None; Availability: In Stock; Package: TO-220 Infineon; Value: *
footprint TO254P1041X444X1930-3 (Footprint not found)
pins: 1 G, 2 D, 3 S

## IRFS3107
designator Q?, comment irfs3107
MOSFET N-Channel
footprint D2PAK-7
pins: 1 Drain, 2 Gate, 3 Source

## JACK
designator JACK?, comment JACK POWER
DC Power Receptacle Jack 5A 2.5mm 6.5mm Through Hole AC/DC Power Plugs & Receptacles RoHS; GateName_1: G$1; SymbolName_1: DCJ200-10-A-XX-X_REVA; MP: DCJ200-10-A-K1-K; MF: Global Connector Technology; LibraryName: DCJ200-10-A-XX-X_REVA; DeviceSetName: DCJ200-10-A-XX-X_REVA; Package: GCT_DCJ200-10-A-XX-X_REVA; Package: None; Availability: Warning; Price: None
footprint Jack 5A XKB DC-005-5A-2.5
pins: 1, 2, 3

## JST B2B XH
designator J?, comment B2B
JST Sales America Connector, B2B-XH-AM(LF)(SN), 2 ways, LCSC Part = C161869
footprint JST B2B XH THT (JST Conector, 2 ways)
pins: 1, 2

## JST B3B XH
designator B3B
JST Sales America Connector, B3B-XH-AM(LF)(SN), 3 ways, LCSC Part = C161870
footprint JST B3B XH THT (Jst conector, 3 ways)
pins: 1, 2, 3

## JST B4B XH
designator B4B
JST Sales America Connector, B4B-XH-AM(LF)(SN), 4 ways, LCSC Part = C161871
footprint JST B4B XH THT (JST Conector, 4 ways)
pins: 1, 2, 3, 4

## JST B5B XH
designator B5B
JST Sales America Connector, B5B-XH-AM(LF)(SN), 5 ways, LCSC Part = C161872
footprint JST B5B XH THT (KK Conector, 5 ways)
pins: 1, 2, 3, 4, 5

## JST B7B XH
designator J?, comment B7B
JST Sales America Connector, B2B-XH-AM(LF)(SN), 7 ways, LCSC Part = C161874; LatestRevisionDate: 17-Jul-2002; LatestRevisionNote: Re-released for DXP Platform.; Publisher: Altium Limited
footprint JST B7B XH THT (Jst conector, 7 ways)
pins: 1, 2, 3, 4, 5, 6, 7

## JST B8B XH
designator B8B
JST Sales America Connector, B4B-XH-AM(LF)(SN), 4 ways, LCSC Part = C161875; LatestRevisionDate: 17-Jul-2002; LatestRevisionNote: Re-released for DXP Platform.; Publisher: Altium Limited
footprint JST B8B XH THT (JST conector, 8 ways)
pins: 1, 2, 3, 4, 5, 6, 7, 8

## Jumper CKT
designator Jumper
Switch with jumper, 3 ways
footprint Jumper CKT
pins: 1 B, 2 A, 3 C

## Jumper SW
designator SW?
footprint Jumper SW
footprint Jumper CKT
pins: IN, OUT1, OUT2

## KF301-2P
designator J
2 Pin Terminal Block 5mm Pitch; MP: KF301-2P; MF: Handson Technology; Availability: Unavailable; Price: None; Value: *; SnapEDA_Link: https://www.snapeda.com/parts/KF301-2P/Handson%20Technology/view-part/4276957/?ref=snap; Package: Package
footprint HANDSON_KF301-2P
pins: 1, 2

## KK2
designator KK2_?
KK Connector, 2 ways
footprint KK2 (KK Conector, 2 ways)
footprint BORNE (2 pinos)
footprint Chave tátil - 6 (6 pins)
pins: 1, 2

## KK3
designator KK3
KK Connector, 3 ways
footprint KK3 (KK Conector, 3 ways)
footprint KK3 90 (KK Conector, 3 ways, 90 degrees)
pins: 1, 2, 3

## KK4
designator KK4_?
KK Connector, 4 ways
footprint KK4
pins: 1, 2, 3, 4

## KK5
designator KK5_?
KK Connector, 5 ways
footprint KK5 (KK Conector, 5 ways)
pins: 1, 2, 3, 4, 5

## LED 5mm THT
designator L?  (value not drawn)
Color: *
footprint LED THT
pins: 1 A, 2 K

## LED SMD 0603
designator LED?  Cor: Vermelho
Diodo emissor de luz SMD 0603
footprint LED SMD 0603 Vermelho (Footprint not found)
footprint LED SMD 0603 Verde (Footprint not found)
footprint LED SMD 0603 Azul (Footprint not found)
pins: A, K

## LED_SMD_Green_0603_570nm
designator Power_ON_?, comment Green
LED 0603 SMD Green 570nm 50mcd 20mA; Manufacturer 1: Kingbright Company LLC; Manufacturer Part Number 1: APT1608CGCK; Ratings: 20mcd min; 50 mcd typ; 570 nm; Voltage - Forward (Vf) Typ: 2.1V; Viewing Angle: 120°; Lens Style/Size: Rectangle with Flat Top, 1.1mm x 0.8mm; Voltage - Forward (Vf) @ 10mA: 2.0V; SCDType: source; Wavelength - Peak: 574nm; Lens Type: Clear; Package / Case: 0603 (1608 metric); Material: AlGaInP; Color: Green; Current - Test: 20mA; Supplier 1: Digi-Key; Supplier Part Number 1: 754-1116-1-ND; RoHS 1: RoHS Compliant; Wavelength - Dominant: 570nm; ComponentLink1URL: http://www.us.kingbright.com/images/catalog/SPEC/APT1608CGCK.pdf; ComponentLink1Description: http://www.us.kingbright.com/images/catalog/SPEC/APT1608CGCK.pdf
footprint LED-0603-GREEN
pins: A, K

## LED_SMD_Red_0603_220mcd
designator Error?, comment Red
LED 0603 SMD Hyper Red 630nm 220mcd 20mA; Manufacturer 1: Kingbright Company LLC; Manufacturer Part Number 1: APT1608SURCK; Ratings: 220 mcd; 630 nm; Voltage - Forward (Vf) Typ: 1.95V; Voltage - Forward (Vf) @ 10mA: 1.9V; SCDType: source; Package / Case: 0603 (1608 metric); Material: AlGaInP on GaAs; Supplier 1: Digi-Key; Supplier Part Number 1: 754-1123-1-ND; ComponentLink1URL: http://www.us.kingbright.com/images/catalog/SPEC/APT1608SURCK.pdf; ComponentLink1Description: http://www.us.kingbright.com/images/catalog/SPEC/APT1608SURCK.pdf
footprint LED-0603-RED
pins: A, K

## LM78XX SMD
designator Reg
Voltage stabiliser; fixed; 5V; 1.5A; SMD; MP: L7805ACD2T; MF: STMicroelectronics; Package: D2PAK STMicroelectronics; Availability: Unavailable; Price: 0.81 USD; SnapEDA_Link: https://www.snapeda.com/parts/L7805ACD2T/STMicroelectronics/view-part/?ref=snap; Value: *
footprint VREG_TL431CPK
footprint VREG_L7805ACD2T
pins: 1 IN (in), 2 GND, 3 OUT (out)

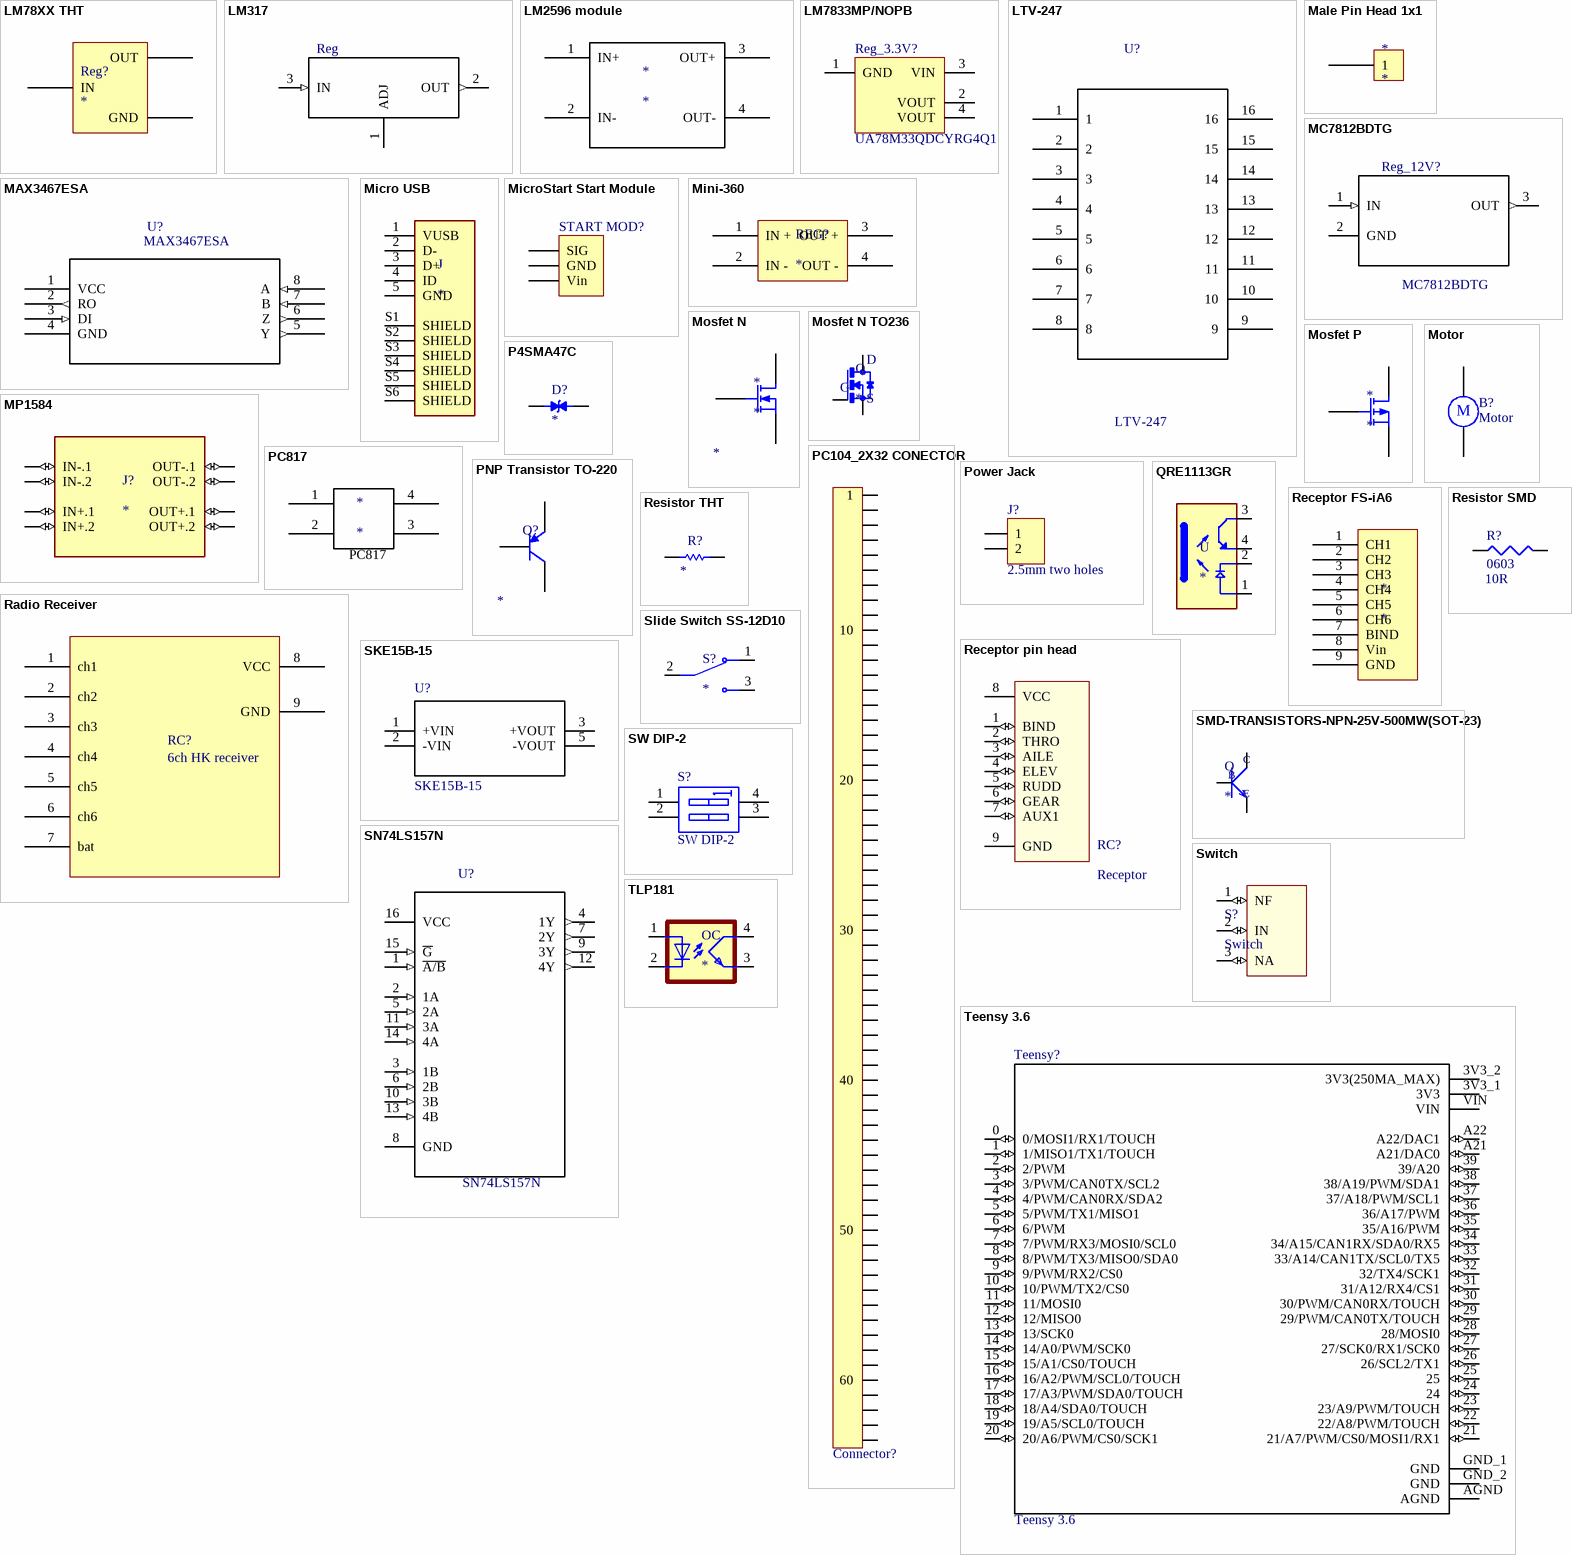
[diagram p3: symbols LM78XX THT to TLP181]

## LM78XX THT
designator Reg?
Voltage stabiliser; fixed; 5V; 1.5A; THT
footprint TO-220 (TO-220 coupling)
pins: 1 IN, 2 GND, 3 OUT

## LM317
designator Reg
Voltage stabiliser; ajustable  1.2V ~ 37V; 1.5A; SMD; MP: L7805ACD2T; MF: STMicroelectronics; Package: D2PAK STMicroelectronics; Availability: Unavailable; Price: 0.81 USD; SnapEDA_Link: https://www.snapeda.com/parts/L7805ACD2T/STMicroelectronics/view-part/?ref=snap; Value: *
footprint TO-263
pins: 1 ADJ, 2 OUT (out), 3 IN (in)

## LM2596 module
designator *
Step-down regulável
footprint LM2596 module
pins: 1 IN+, 2 IN-, 3 OUT+, 4 OUT-

## LM7833MP/NOPB
designator Reg_3.3V?, comment UA78M33QDCYRG4Q1
3.3V Regulator, 3-Pin SOT-223, Extended Temperature, Tape and Reel; Published: 29-Jan-2009; DatasheetVersion: revA, Aug-2007; PackageVersion: revBB, Aug-2009; PackageReference: SOT-223-DB3; Publisher: Altium Limited; PackageDescription: 3-Lead Plastic Small Outline Transistor (DB) [SOT-223]; Supplier 1: Digi-Key; Supplier Part Number 1: MCP1824ST-1202E/DBTR-ND; Supplier 2: Digi-Key; Supplier Part Number 2: MCP1824ST-1202E/DBCT-ND; Supplier 3: Digi-Key; Supplier Part Number 3: MCP1824ST-1202E/DBDKR-ND; Supplier 4: Farnell; Supplier Part Number 4: 1675417; ComponentLink1Description: Datasheet; ComponentLink1URL: http://ww1.microchip.com/downloads/en/DeviceDoc/22070a.pdf; ComponentLink2Description: Packaging Specification; ComponentLink2URL: http://www.microchip.com/stellent/groups/techpub_sg/documents/packagingspec/en012702.pdf; ComponentLink3Description: Microchip.com Home; ComponentLink3URL: http://www.microchip.com/
footprint SOT223 (SOT223, 4-Leads, Body 6.5x3.5mm, Pitch 2.3mm, Lead Span 7mm, IPC Low Density)
pins: 1 GND (power), 2 VOUT (power), 3 VIN (power), 4 VOUT (power)

## LTV-247
designator U?
A/D converter IC 12 Bit 4-channel SO-16N; MF: Linear Technology; MP: LTC1594CS#PBF; Package: SOIC-16 Linear Technology; Price: None; Availability: Unavailable; SnapEDA_Link: https://www.snapeda.com/parts/LTC1594CS%23PBF/Linear%20Technology/Analog%20Devices/view-part/?ref=snap; Value: *
footprint LTV-247
pins: 1, 2, 3, 4, 5, 6, 7, 8, 9, 10, 11, 12, 13, 14, 15, 16

## Male Pin Head 1x1
designator *
footprint HEADER 1X1 8.5MM
pins: 1

## MAX3467ESA
designator U?
Interface IC - transceivers Maxim Integrated MAX3467ESA+ RS422, RS485 1/1 SOIC 8 N; Package: SOIC Maxim Integrated; MP: MAX3467ESA+; MF: Maxim Integrated; Price: None; Availability: Unavailable; SnapEDA_Link: https://www.snapeda.com/parts/MAX3467ESA%2B/Maxim%20Integrated/view-part/?ref=snap; Value: *
footprint *21-0041B_8
pins: 1 VCC (power), 2 RO (out), 3 DI (in), 4 GND (power), 5 Y (out), 6 Z (out), 7 B (in), 8 A (in)

## MC7812BDTG
designator Reg_12V?
12v voltage regulator; MP: L78M05ACDT-TR; MF: STMicroelectronics; Availability: Good; Price: 0.26 USD; Package: TO-252-3 STMicroelectronics; SnapEDA_Link: https://www.snapeda.com/parts/L78M05ACDT-TR/STMicroelectronics/view-part/?ref=snap; Value: *
footprint TO225P972X240-3N
pins: 1 IN (in), 2 GND, 3 OUT (out)

## Micro USB
designator J
USB - micro B USB 2.0 Receptacle Connector 5 Position Surface Mount, Right Angle; Through Hole; MP: 10118193-0001LF; MF: Amphenol ICC; Availability: Unavailable; SnapEDA_Link: https://www.snapeda.com/parts/10118193-0001LF/Amphenol%20FCI/view-part/2758989/?ref=snap; Price: None; Value: *; Package: None
footprint Micro USB
pins: 1 VUSB, 2 D-, 3 D+, 4 ID, 5 GND, S1 SHIELD, S2 SHIELD, S3 SHIELD, S4 SHIELD, S5 SHIELD, S6 SHIELD

## MicroStart Start Module
designator START MOD?
Módulo Iniciar da Jsumo; LatestRevisionDate: 17-Jul-2002; LatestRevisionNote: Re-released for DXP Platform.; Publisher: Altium Limited
footprint MicroStart Start Module (Módulo Start da Jsumo)
footprint MicroStart Start Module - Com Borda (Módulo Start da Jsumo)
pins: 1 SIG, 2 GND (power), 3 Vin (power)

## Mini-360
designator REG?
Módulo Regulador de Tensão Step Down Buck DC-DC Mini 360 3A
footprint Mini-360 (Footprint not found)
pins: 1 IN + (power), 2 IN - (power), 3 OUT + (power), 4 OUT - (power)

## Mosfet N
designator *
Model: *
footprint TO-220 (TO-220 coupling)
footprint TO-252-3
footprint TO-263
pins: 1 G, 2 D, 3 S

## Mosfet N TO236
designator Q
N-Channel 30V 2.2A _Ta_ 500mW _Ta_ Surface Mount SuperSOT-3; MF: ON Semiconductor; MP: FDN337N; SnapEDA_Link: https://www.snapeda.com/parts/FDN337N/ON%20Semiconductor/view-part/1365384/?ref=snap; Price: None; Availability: Unavailable; Value: *; Package: SC-59 ON Semiconductor
footprint TO-236
pins: 1 G, 2 S, 3 D

## Mosfet P
designator *
Model: *
footprint TO-220 (TO-220 coupling)
footprint TO-252-3
pins: 1 G, 2 D, 3 S

## Motor
designator B?
Motor, General Kind; Published: 24-Mar-1999; LatestRevisionDate: 17-Jul-2002; LatestRevisionNote: Re-released for DXP Platform.; PackageReference: RB5-10.5; Publisher: Altium Limited; PackageDescription: Capacitor (Radial); 2 Leads
footprint Motor
footprint Motor Crepe Suzette
pins: 1, 2
text: M

## MP1584
designator J?
Buck Switching Regulator IC Positive Adjustable 0.8V 1 Output 3A 8-SOIC (0.154, 3.90mm Width) Exposed Pad; MP: MP1584; MF: Monolithic Power; Availability: In Stock; SnapEDA_Link: https://www.snapeda.com/parts/MP1584/Monolithic+Power+Systems+Inc./view-part/?ref=snap; Price: None; Check_prices: https://www.snapeda.com/parts/MP1584/Monolithic+Power+Systems+Inc./view-part/?ref=eda; Package: SOIC-8 Monolithic Power; Purchase-URL: https://pricing.snapeda.com/search/part/MP1584/?ref=eda; Value: *
footprint MP1584_MODULE
pins: IN+.1 (io), IN+.2 (io), IN-.1 (io), IN-.2 (io), OUT+.1 (io), OUT+.2 (io), OUT-.1 (io), OUT-.2 (io)

## P4SMA47C
designator D?
MP: P4SMA47C; Package: None; Price: None; Availability: Unavailable; Value: *
footprint DIOM4325X250N
footprint RCLAMP0521PATCT
pins: 1, 2

## PC104_2X32 CONECTOR
designator Connector?, comment Conector Padrão PC104 64 vias  (value not drawn)
footprint PC104_2X32
pins: 1, 2, 3, 4, 5, 6, 7, 8, 9, 10, 11, 12, 13, 14, 15, 16, 17, 18, 19, 20, 21, 22, 23, 24, 25, 26, 27, 28, 29, 30, 31, 32, 33, 34, 35, 36, 37, 38, 39, 40, 41, 42, 43, 44, 45, 46, 47, 48, 49, 50, 51, 52, 53, 54, 55, 56, 57, 58, 59, 60, 61, 62, 63, 64

## PC817
designator *
Optoacoplador
footprint PC817 (Footprint not found)
pins: 1, 2, 3, 4

## PNP Transistor TO-220
designator Q?
Model: *
footprint TO-220 (TO-220 coupling)
pins: 1 E, 2 C, 3 B

## Power Jack
designator J?, comment 2.5mm two holes
WR-TBL Terminal Blocks Serie 2109 - 2.54 mm with Rising Cage Clamp; Manufacturer: Würth Elektronik eiSos GmbH; partNo: Power Jack; ComponentLink1 Description: Manufacturer; ComponentLink2 Description: Datasheet; NoPins: 2; Created Date: 8 Novenber 2013; ComponentLink1URL: http://www.we-online.com; ComponentLink2URL: http://katalog.we-online.de/em/datasheet/6912109100xx.pdf; Created by: Karrer Zheng
footprint Power Jack
pins: 1, 2

## QRE1113GR
designator U
Reflective Optical Sensor 0.197 _5mm_ 4-SMD, Gull Wing; MP: QRE1113GR; MF: ON Semiconductor; Availability: Unavailable; Package: SMD-4 ON Semiconductor; SnapEDA_Link: https://www.snapeda.com/parts/QRE1113GR/ON%20Semiconductor/view-part/1665429/?ref=snap; Price: None; Value: *
footprint QRE1113GR
pins: 1 A, 2 C, 3 CT, 4 ET

## Radio Receiver
designator RC?, comment 6ch HK receiver
Receptor RC
footprint RADIO RECEIVER
footprint Radio Receiver Futaba
pins: 1 ch1, 2 ch2, 3 ch3, 4 ch4, 5 ch5, 6 ch6, 7 bat, 8 VCC, 9 GND

## Receptor FS-iA6
designator *
footprint Receptor FS-iA6
pins: 1 CH1, 2 CH2, 3 CH3, 4 CH4, 5 CH5, 6 CH6, 7 BIND, 8 Vin, 9 GND (power)

## Receptor pin head
designator RC?, comment Receptor
footprint Radio Receiver
pins: 1 BIND (io), 2 THRO (io), 3 AILE (io), 4 ELEV (io), 5 RUDD (io), 6 GEAR (io), 7 AUX1 (io), 8 VCC (power), 9 GND (power)

## Resistor SMD
designator R?  value 10R  Size: 0603  (hidden comment: *)
Resistor SMD com os tamanhos 0603, 0805, 1206 e 1210
footprint Resistor SMD 0603 (Footprint not found)
footprint Resistor SMD 0805 (Footprint not found)
footprint Resistor SMD 1206 (Footprint not found)
footprint Resistor SMD 1210 (Footprint not found)
pins: 1, 2

## Resistor THT
designator R?
Value: *
footprint RESISTOR THT 5mm
pins: 1, 2

## SKE15B-15
designator U?
dc-dc isolated, 5 W, 5V, 1 A, DIP, ext temp; MP: AE5-EW-S5; MF: CUI; CUI_purchase_URL: https://www.cui.com/product/power/dc-dc-converters/isolated/board-mount/5-w/ae5-ew-series?utm_source=snapeda.com&utm_medium=referral&utm_campaign=snapedaBOM; Package: DIP-5 CUI; Price: None; Availability: Unavailable; SnapEDA_Link: https://www.snapeda.com/parts/AE5-EW-S5/CUI%20Inc./view-part/?ref=snap; Value: *
footprint SKE15B-15
pins: 1 +VIN (power), 2 -VIN (power), 3 +VOUT (power), 5 -VOUT (power)

## Slide Switch SS-12D10
designator S?
Slide Swith SS-12D10; MP: 100SP1T1B4M2QE; Value: *; Availability: Unavailable; Price: None; Package: None
footprint Slide Switch SS-12D10
pins: 1, 2, 3

## SMD-TRANSISTORS-NPN-25V-500MW(SOT-23)
designator Q
Isolated Module DC DC Converter 1 Output 5V 200mA 4.5V - 5.5V Input; MP: S8050; MF: Recom Power; Package: SOT-23 Micro Commercial; Availability: Unavailable; Value: *; SnapEDA_Link: https://www.snapeda.com/parts/S8050/Recom%20Power/view-part/680890/?ref=snap; Price: None
footprint SOT-23
pins: 1 B, 2 E, 3 C

## SN74LS157N
designator U?
IC Quad 2-1 L Data/sel 16PI; MF: Texas Instruments; Package: PDIP-16 Motorola; Digi-Key_Purchase_URL: https://www.digikey.com.br/product-detail/en/texas-instruments/SN74LS157N/296-1645-5-ND/277291?utm_source=snapeda&utm_medium=aggregator&utm_campaign=symbol; Digi-Key_Part_Number: 296-1645-5-ND; SnapEDA_Link: https://www.snapeda.com/parts/SN74LS157N/Texas%20Instruments/view-part/?ref=snap; MP: SN74LS157N; Value: *
footprint SOP16
pins: 1 ~{A/B} (in), 2 1A (in), 3 1B (in), 4 1Y (out), 5 2A (in), 6 2B (in), 7 2Y (out), 8 GND, 9 3Y (out), 10 3B (in), 11 3A (in), 12 4Y (out), 13 4B (in), 14 4A (in), 15 ~{G} (in), 16 VCC (power)

## SW DIP-2
designator S?
DIP Switch, 2 Position, SPST; Published: 24-Mar-1999; LatestRevisionDate: 17-Jul-2002; LatestRevisionNote: Re-released for DXP Platform.; PackageReference: DIP-4; Publisher: Altium Limited
footprint DIP-4 (DIP; 4 Leads; Row Spacing 7.62 mm; Pitch 2.54 mm)
simulation model dpsw2 (Spice Subcircuit)
pins: 1 A1, 2 A2, 3 B2, 4 B1

## Switch
designator S?
footprint Switch (Switch biestable 3 pins)
footprint SWITCH COM 3D (Switch biestable 3 pins)
pins: 1 NF (io) "OFF", 2 IN (io) "Input", 3 NA (io) "ON"

## Teensy 3.6
designator Teensy?
Teensy 3.6 _Headers_; MP: DEV-14058; MF: SparkFun Electronics; Availability: Good; SnapEDA_Link: https://www.snapeda.com/parts/DEV-14058/SparkFun%20Electronics/view-part/?ref=snap; Price: 37.00 USD; Package: None; Value: *
footprint Teensy
pins: 0 0/MOSI1/RX1/TOUCH (io), 1 1/MISO1/TX1/TOUCH (io), 2 2/PWM (io), 3 3/PWM/CAN0TX/SCL2 (io), 3V3_1 3V3 (power), 3V3_2 3V3(250MA_MAX) (power), 4 4/PWM/CAN0RX/SDA2 (io), 5 5/PWM/TX1/MISO1 (io), 6 6/PWM (io), 7 7/PWM/RX3/MOSI0/SCL0 (io), 8 8/PWM/TX3/MISO0/SDA0 (io), 9 9/PWM/RX2/CS0 (io), 10 10/PWM/TX2/CS0 (io), 11 11/MOSI0 (io), 12 12/MISO0 (io), 13 13/SCK0 (io), 14 14/A0/PWM/SCK0 (io), 15 15/A1/CS0/TOUCH (io), 16 16/A2/PWM/SCL0/TOUCH (io), 17 17/A3/PWM/SDA0/TOUCH (io), 18 18/A4/SDA0/TOUCH (io), 19 19/A5/SCL0/TOUCH (io), 20 20/A6/PWM/CS0/SCK1 (io), 21 21/A7/PWM/CS0/MOSI1/RX1 (io), 22 22/A8/PWM/TOUCH (io), 23 23/A9/PWM/TOUCH (io), 24 (io), 25 (io), 26 26/SCL2/TX1 (io), 27 27/SCK0/RX1/SCK0 (io), 28 28/MOSI0 (io), 29 29/PWM/CAN0TX/TOUCH (io), 30 30/PWM/CAN0RX/TOUCH (io), 31 31/A12/RX4/CS1 (io), 32 32/TX4/SCK1 (io), 33 33/A14/CAN1TX/SCL0/TX5 (io), 34 34/A15/CAN1RX/SDA0/RX5 (io), 35 35/A16/PWM (io), 36 36/A17/PWM (io), 37 37/A18/PWM/SCL1 (io), 38 38/A19/PWM/SDA1 (io), 39 39/A20 (io), A21 A21/DAC0 (io), A22 A22/DAC1 (io), AGND (power), GND_1 GND (power), GND_2 GND (power), VIN (power)

## TLP181
designator OC
Optoisolator Transistor Output 3750Vrms 1 Channel 6-MFSOP, 4 Lead; MF: Toshiba Semiconductor; MP: TLP181; Price: None; Value: *; Package: SOP-4 Toshiba; Availability: Unavailable; SnapEDA_Link: https://www.snapeda.com/parts/TLP181/Toshiba%20Semiconductor%20and%20Storage/view-part/156745/?ref=snap
footprint SO-4 (Footprint not found)
pins: 1 A, 2 C, 3 EMIT, 4 COL

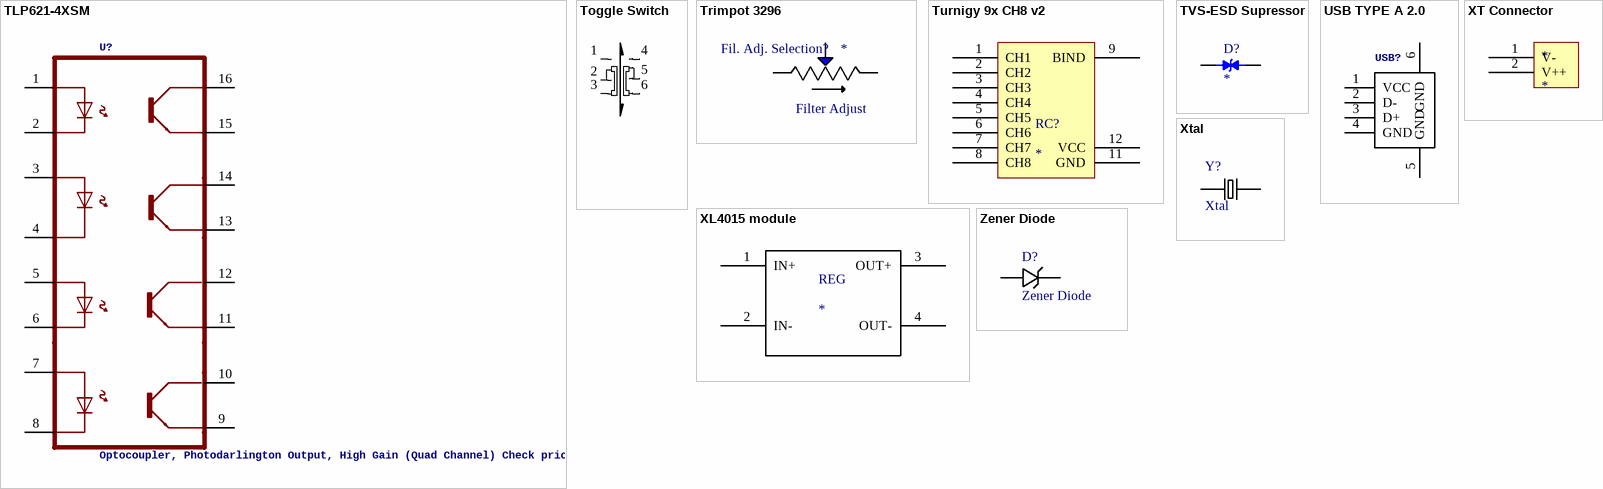
[diagram p4: symbols TLP621-4XSM to Zener Diode]

## TLP621-4XSM
designator U?, comment Optocoupler, Photodarlington Output, High Gain (Quad Channel) Check prices
Optoacoplador quadruplo; GateName_1: G$1; SymbolName_1: ILQ32-X009T; MP: ILQ32-X009; MF: Vishay Semiconductor; LibraryName: ILQ32-X009T; DeviceSetName: ILQ32-X009T; Package: SOIC254P1005X380-16N; Package: SMD-16 Vishay; Purchase-URL: https://pricing.snapeda.com/search/part/ILQ32-X009/?ref=eda; Price: None; Availability: Warning
footprint SMD-16
pins: 1, 2, 3, 4, 5 5., 6 6., 7 7., 8 8., 9 9., 10, 11, 12, 13, 14, 15, 16

## Toggle Switch
designator ?
Toggle Switch de 2 polos e 2 posições; Published: 24-Mar-1999; LatestRevisionDate: 17-Dec-2003; LatestRevisionNote: Schematic revised, PCB Footprint replaced.; DatasheetVersion: 05-Dec-2000; PackageReference: TL36WW15050; Publisher: Altium Limited; PackageDescription: Switch; 4 Leads; ComponentLink1Description: Manufacturer Link; ComponentLink1URL: http://www.apem.com
footprint Toggle Switch  SSSS820101 (Switch biestable 3 pins)
pins: 1, 2 C "É o pino comum, sempre ativo", 3, 4, 5 C "É o pino comum, sempre ativo", 6

## Trimpot 3296
designator Fil. Adj. Selection?, comment Filter Adjust
Trimpot 25 Ohm 3/8 Sq Cer Mt; MF: Bourns; MP: 3296W-1-250; Price: None; Availability: Unavailable; Package: SOT-23-5 Bourns; SnapEDA_Link: https://www.snapeda.com/parts/3296W-1-250/Bourns/view-part/?ref=snap; Value: *
footprint Trimpot 3296W
pins: 1 CCW, 2 WIPER, 3 CW

## Turnigy 9x CH8 v2
designator RC?
footprint Turnigy 9X 8CH v2 (Footprint not found)
pins: 1 CH1, 2 CH2, 3 CH3, 4 CH4, 5 CH5, 6 CH6, 7 CH7, 8 CH8, 9 BIND, 11 GND, 12 VCC

## TVS-ESD Supressor
designator D?
Transient Voltage Suppressors for ESD Protection; MP: LESD5D5.0CT1G; MF: Leshan Radio Co.; Value: *; SnapEDA_Link: https://www.snapeda.com/parts/LESD5D5.0CT1G/Leshan+Radio+Co./view-part/?ref=snap; Check_prices: https://www.snapeda.com/parts/LESD5D5.0CT1G/Leshan+Radio+Co./view-part/?ref=eda; Availability: Not in stock; Price: None; Package: None
footprint TVS-ESD Supressor
pins: 1, 2

## USB TYPE A 2.0
designator USB?
USB 2.0 Receptacle, Type A,Through Hole, Horizontal, Top Mount, Without Flange  Check prices; GateName_1: G$1; SymbolName_1: USB1125-GF-B_REVA; MF: Global Connector Technology; MP: USB1125-GF-B; LibraryName: USB1125-GF-B_REVA; DeviceSetName: USB1125-GF-B_REVA; Package: GCT_USB1125-GF-B_REVA; Price: None; Availability: Warning; Package: Package
footprint USB
pins: 1 VCC (power), 2 D-, 3 D+, 4 GND (power), 5 GND (power), 6 GND (power)

## XL4015 module
designator REG
Step-down regulável 5A
footprint XL4015 MODULE
pins: 1 IN+, 2 IN-, 3 OUT+, 4 OUT-

## XT Connector
designator *
footprint XT90
footprint XT60
footprint XT30
pins: 1 V-, 2 V++

## Xtal
designator Y?
Crystal 18.4320mhz 20pf t/h; MP: ECS-184-20-4VX; MF: ECS International; SnapEDA_Link: https://www.snapeda.com/parts/ECS-184-20-4VX/ECS%20International/view-part/?ref=snap; Package: HC-49/US ECS International; Price: 1.20 USD; Availability: Warning; Value: *
footprint Xtal (Footprint not found)
pins: 1, 2

## Zener Diode
designator D?
Diode Zener 10.6V 375 mW AEC-Q101
footprint SOD123 (SOD-123; 2 Leads; Body 2.7 x 1.6 mm, (LxW))
pins: A, K